# EAGLE library part ADXL375 (library Hocki_library )
Accelerometer X, Y, Z Axis ±200g 0.05Hz ~ 1.6kHz 14-LGA (3x5) DigiKey <https://www.digikey.com/product-detail/en/analog-devices-inc/ADXL375BCCZ-RL7/ADXL375BCCZ-RL7CT-ND/4376405>
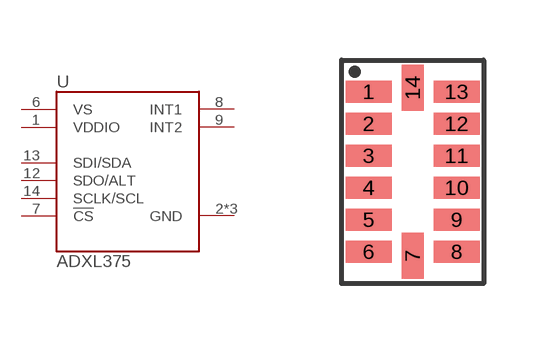
[diagram p0: symbol with the pads of 14-LGA; footprint 14-LGA]

Designator prefix U

## ADXL375 (DKPN: ADXL375BCCZ-RL7CT-ND)  [14-LGA]
1  VDDIO  pas
2  GND  pas
4  GND  pas
5  GND  pas
6  VS  pas
7  !CS  pas
8  INT1  pas
9  INT2  pas
12  SDO/ALT  pas
13  SDI/SDA  pas
14  SCLK/SCL  pas

## Footprint 14-LGA (pad centres in mm)
smd 1.145 x 0.55: 1 -1.1,2; 2 -1.1,1.2; 3 -1.1,0.4; 4 -1.1,-0.4; 5 -1.1,-1.2; 6 -1.1,-2; 8 1.1,-2; 9 1.1,-1.2; 10 1.1,-0.4; 11 1.1,0.4; 12 1.1,1.2; 13 1.1,2
smd 0.55 x 1.145: 7 0,-2.1; 14 0,2.1